# EAGLE library part AVULAR_IMU (library everykey)
Avular IMU module
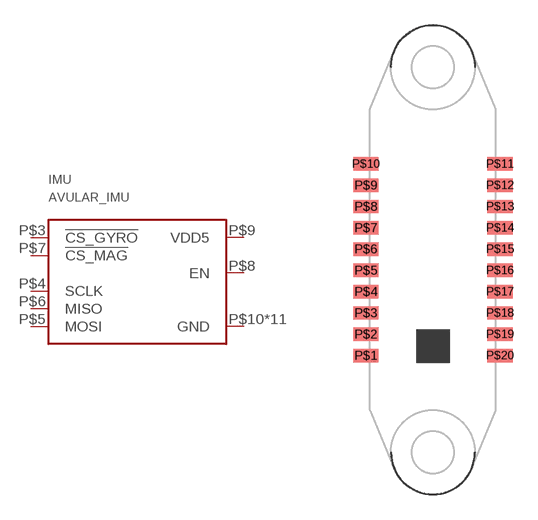
[diagram p95: symbol with the pads of AVULAR_IMU; footprint AVULAR_IMU]

Designator prefix IMU

## AVULAR_IMU  [AVULAR_IMU]
P$3  !CS_GYRO  in
P$4  SCLK  in
P$5  MOSI  in
P$6  MISO
P$7  !CS_MAG
P$8  EN  pwr
P$9  VDD5  pwr
P$10  GND  pwr
P$11  GND  pwr
P$12  GND  pwr
P$13  GND  pwr
P$14  GND  pwr
P$15  GND  pwr
P$16  GND  pwr
P$17  GND  pwr
P$18  GND  pwr
P$19  GND  pwr
P$20  GND  pwr

## Footprint AVULAR_IMU (pad centres in mm)
Avular inertial measurement unit. GYRO AT ORIGIN.
smd 1.5 x 0.8: P$1 -4,-0.565; P$2 -4,0.705; P$3 -4,1.975; P$4 -4,3.245; P$5 -4,4.515; P$6 -4,5.785; P$7 -4,7.055; P$8 -4,8.325; P$9 -4,9.595; P$10 -4,10.865; P$11 4,10.865; P$12 4,9.595; P$13 4,8.325; P$14 4,7.055; P$15 4,5.785; P$16 4,4.515; P$17 4,3.245; P$18 4,1.975; P$19 4,0.705; P$20 4,-0.565